# Altium schematic symbol library CAP - GENERIC.SchLib: 1 symbol
Pins are listed as number, name and electrical type; pins without a type are passive.

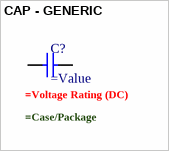
[diagram p0: symbol CAP - GENERIC]

## CAP - GENERIC
designator C?
.Case/Package: =Case/Package; .Voltage Rating (DC): =Voltage Rating (DC)
pins: 1, 2